# EAGLE library part ESD8704 (library kicker_controller)
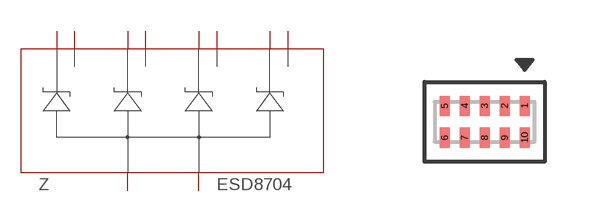
[diagram p0: symbol with the pads of UDFN10; footprint UDFN10]

Designator prefix Z

## ESD8704 (MF: ON Semiconductor; MOUSER: 863-ESD8704MUTAG; MPN: ESD8704MUTAG)  [UDFN10]
1  C1  pas
2  C2  pas
3  A  pas
4  C3  pas
5  C4  pas
6  D4  pas
7  D3  pas
8  A  pas
9  D2  pas
10  D1  pas

## Footprint UDFN10 (pad centres in mm)
smd 0.25 x 0.5: 1 1,0.4; 2 0.5,0.4; 3 0,0.4; 4 -0.5,0.4; 5 -1,0.4; 6 -1,-0.4; 7 -0.5,-0.4; 8 0,-0.4; 9 0.5,-0.4; 10 1,-0.4